# Altium schematic symbol library LM7905sch.SchLib: 1 symbol
Pins are listed as number, name and electrical type; pins without a type are passive.

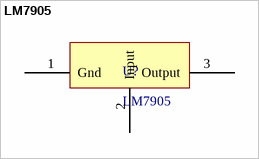
[diagram p0: symbol LM7905]

## LM7905
designator U?
pins: 1 Gnd, 2 Input, 3 Output